# Altium schematic symbol library Schlib.SchLib: 1 symbol
Pins are listed as number, name and electrical type; pins without a type are passive.

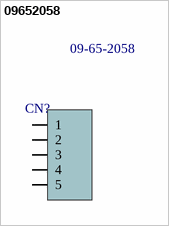
[diagram p0: symbol 09652058]

## 09652058
designator CN?  Manufacturer Part Number: 09-65-2058  (hidden comment: 09652058)
SPOX™ and KK® 396 Wire-to-Board Header, Vertical, with Friction Lock, 5 Circuits; Manufacturer: Molex; Number of Positions: 5; Current Rating: 7A; Voltage Rating: 250V; Contact Resistance: 10mR; Gender: Male; Pitch: 3.96mm; RoHS: Yes; Category: Headers and Wire Housings; Mount: Through Hole; Contact Plating: Tin,Copper; Housing Material: Nylon; Contact Material: Brass; Housing Color: Natural; Min Operating Temperature: -40°C; Max Operating Temperature: 105°C; Number of Rows: 1; Packaging: Bag; Termination: Solder; Number of Contacts: 5; Orientation: Straight; Series: 5273; Package Quantity: 4000; Max Voltage Rating (AC): 250V; Voltage Rating (DC): 250V; Max Current Rating: 7A; Length: 19.04mm; Height: 13.85mm; Depth: 10.75mm; Radiation Hardening: No; RoHS Compliant: Yes; Lead Free: Lead Free; REACH SVHC: Unknown; ComponentLink1URL: https://datasheet.ciiva.com/5162/0009652058-pcb-headers-131639-5162529.pdf?src-supplier=Mouser; ComponentLink1Description: https://datasheet.ciiva.com/5162/0009652058-pcb-headers-131639-5162529.pdf?src-supplier=Mouser; ComponentLink2URL: https://datasheet.ciiva.com/27055/1961065-27055322.pdf?src-supplier=Jameco; ComponentLink2Description: https://datasheet.ciiva.com/27055/1961065-27055322.pdf?src-supplier=Jameco; ComponentLink3URL: https://datasheet.ciiva.com/30153/50910009652058-pcb-headers-30153267.pdf?src-supplier=Onlinecomponents.com; ComponentLink3Description: https://datasheet.ciiva.com/30153/50910009652058-pcb-headers-30153267.pdf?src-supplier=Onlinecomponents.com; ComponentLink4URL: https://datasheet.ciiva.com/11747/0900766b80d59e72-11747383.pdf?src-supplier=RSComponents; ComponentLink4Description: https://datasheet.ciiva.com/11747/0900766b80d59e72-11747383.pdf?src-supplier=RSComponents; ComponentLink5URL: https://datasheet.ciiva.com/9468/0009652058-pcb-headers-9468429.pdf?src-supplier=Avnet; ComponentLink5Description: https://datasheet.ciiva.com/9468/0009652058-pcb-headers-9468429.pdf?src-supplier=Avnet; ComponentLink6URL: https://datasheet.ciiva.com/49274/523830-49274679.pdf?src-supplier=Jameco; ComponentLink6Description: https://datasheet.ciiva.com/49274/523830-49274679.pdf?src-supplier=Jameco; Pricing 1: 10=0.44700, 200=0.37700, 750=0.32200, 3000=0.27000, 6000=0.22800 (USD); Stock 1: 380; Supplier Part Number 1: 6705243; Supplier 1: RSComponents
footprint 09652058 (SPOX and KK 396 Wire-to-Board Header, Vertical, with Friction Lock, 5 Circuits)
pins: 1, 2, 3, 4, 5